# Altium schematic symbol library EPCS4SI8N.SchLib: 1 symbol
Pins are listed as number, name and electrical type; pins without a type are passive.

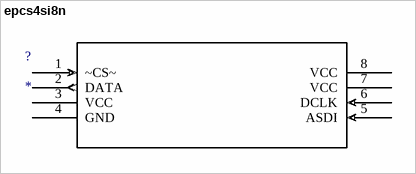
[diagram p0: symbol epcs4si8n]

## epcs4si8n
designator ?
Imported; Manufacturer_Part_Number: EPCS4SI8N; Voltage - Supply: 3 V ~ 3.6 V; Memory Size: 4Mb; Programmable Type: In System Programmable; Vendor: Altera; C: Copyright (C) 2015 Accelerated Designs. All rights reserved; NewarkPartNumber: 58M5866; Operating Temperature: -40В°C ~ 85В°C; Packaging: Tube; Package / Case: 8-SOIC (0.154", 3.90mm Width); DataSheet: http://www.altera.com/literature/hb/cfg/cyc_c51014.pdf; DigiKeyPartNumber: 544-1379-5-ND; Quantity_Available: 4495; Supplier Device Package: 8-SOIC; Copyright: Copyright (C) 2015 Accelerated Designs. All rights reserved; RefDes: RefDes; Type: DEV; Value: Value
footprint 8-SOIC
pins: 1 ~CS~ (in), 2 DATA (out), 3 VCC (power), 4 GND (power), 5 ASDI (in), 6 DCLK (in), 7 VCC (power), 8 VCC (power)